# Altium schematic symbol library DIP_SW_8.Schlib: 1 symbol
Pins are listed as number, name and electrical type; pins without a type are passive.

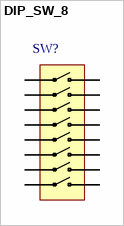
[diagram p0: symbol DIP_SW_8]

## DIP_SW_8
designator SW?  (value not drawn)
4-Element DIP Switch
pins: 1, 2, 3, 4, 5, 6, 7, 8, 9, 10, 11, 12, 13, 14, 15, 16